# EAGLE library part TPS2054B (library PP_PowerIC)
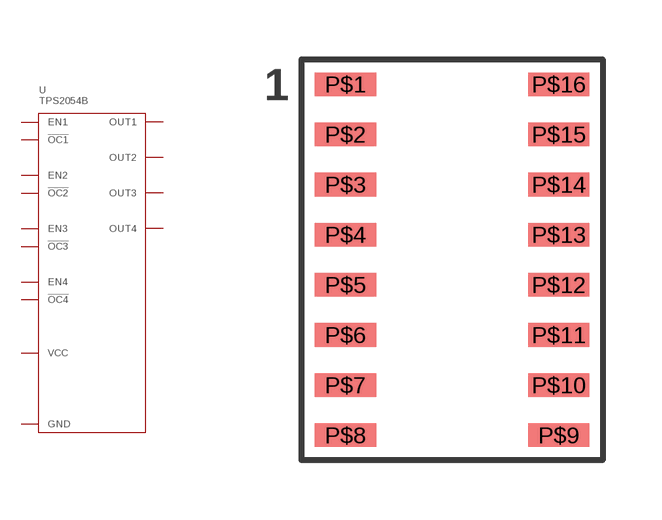
[diagram p12: symbol with the pads of TPS2044BDR_SOIC-16; footprint TPS2044BDR_SOIC-16]

Designator prefix U

## TPS2054B  [TPS2044BDR_SOIC-16]
P$1  GND
P$2  VCC
P$3  EN1
P$4  EN2
P$5  GND
P$6  VCC
P$7  EN3
P$8  EN4
P$9  !OC4
P$10  OUT4
P$11  OUT3
P$12  !OC3
P$13  !OC2
P$14  OUT2
P$15  OUT1
P$16  !OC1

## Footprint TPS2044BDR_SOIC-16 (pad centres in mm)
smd 1.55 x 0.6: P$1 -2.7,4.445; P$2 -2.7,3.175; P$3 -2.7,1.905; P$4 -2.7,0.635; P$5 -2.7,-0.635; P$6 -2.7,-1.905; P$7 -2.7,-3.175; P$8 -2.7,-4.445; P$9 2.7,-4.445; P$10 2.7,-3.175; P$11 2.7,-1.905; P$12 2.7,-0.635; P$13 2.7,0.635; P$14 2.7,1.905; P$15 2.7,3.175; P$16 2.7,4.445